# Altium footprint library MP-2016-1100-65-80.PcbLib: 1 footprints
Each footprint in its own frame and in the unit in brackets; x right, y up, seen from the top. Pads: shape width x height; smd on the part's side, far side on the other; paste and mask are expansions set on the pad; w line width, h text height; cw(c..) or ccw(c..) is an arc to the next point about the centre after c.
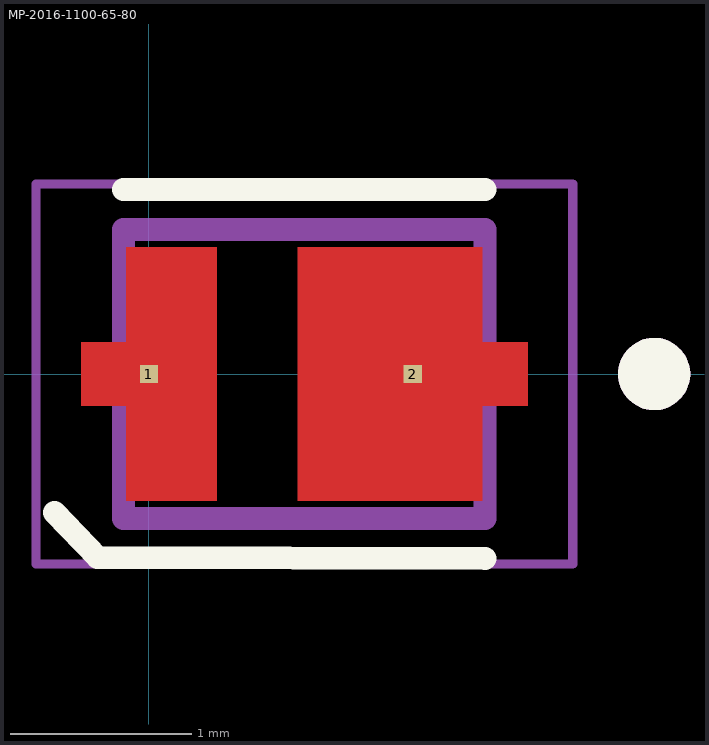
[diagram p0: the footprint, top view; thin cyan lines are the x and y axes]

## MP-2016-1100-65-80 [mm]
pads (2):
  rect 0.1x0.1 smd paste-1 mask+0: 1(0,0) 2(1.46,0)
Top Layer:
  region: 0.375,-0.7 -0.125,-0.7 -0.125,-0.175 -0.375,-0.175 -0.375,0.175 -0.125,0.175 -0.125,0.7 0.375,0.7
  region: 1.845,0.175 2.095,0.175 2.095,-0.175 1.845,-0.175 1.845,-0.7 0.825,-0.7 0.825,0.7 1.845,0.7
Top Overlay:
  circle w0.2: c2.795,0 r0.1
  lines w0.127: -0.521,-0.766 -0.283,-1.016 1.86,-1.02 ; -0.14,1.02 1.86,1.02
Top Paste:
  region: 0.375,-0.5 -0.125,-0.5 -0.125,0.5 0.375,0.5
  region: 1.825,-0.5 0.825,-0.5 0.825,0.5 1.825,0.5
Top Solder:
  region: 0.475,-0.8 -0.225,-0.8 -0.225,-0.275 -0.475,-0.275 -0.475,0.275 -0.225,0.275 -0.225,0.8 0.475,0.8
  region: 1.945,0.275 2.195,0.275 2.195,-0.275 1.945,-0.275 1.945,-0.8 0.725,-0.8 0.725,0.8 1.945,0.8
Mechanical 13:
  circle w0.2: c2.795,0 r0.1
  lines w0.127: -0.14,-0.8 -0.14,0.8 1.86,0.8 1.86,-0.8 -0.14,-0.8
Mechanical 15:
  lines w0.05: -0.625,-1.05 -0.625,1.05 2.345,1.05 2.345,-1.05 -0.625,-1.05
3D body "step_temp.STEP": height 0.52, standoff 0, extent -0.14,-0.8 1.86,0.8